# Altium footprint library CANwheel.PcbLib: 22 footprints (part 1 of 2)
Each footprint in its own frame and in the unit in brackets; x right, y up, seen from the top. Pads: shape width x height; smd on the part's side, far side on the other; paste and mask are expansions set on the pad; w line width, h text height; cw(c..) or ccw(c..) is an arc to the next point about the centre after c.
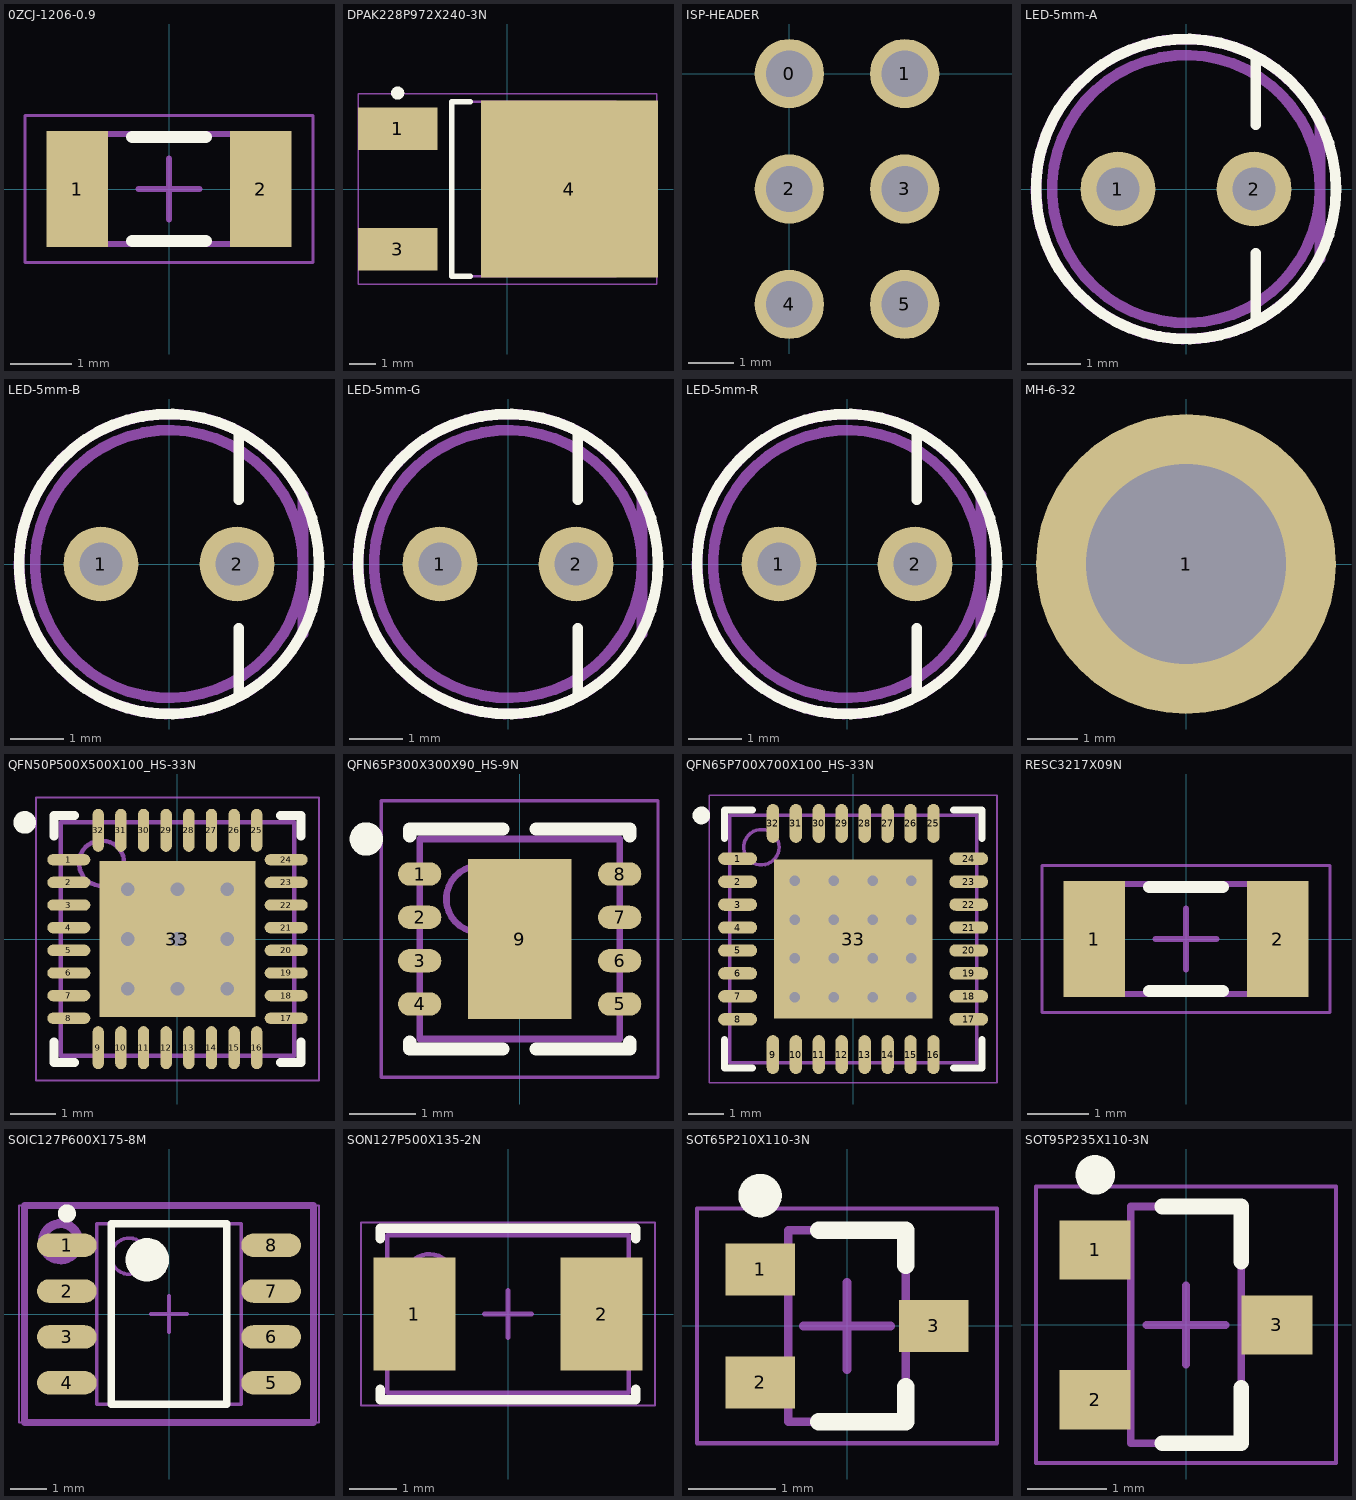
[diagram p0: the footprints below, top view; thin cyan lines are the x and y axes]

## 0ZCJ-1206-0.9 [mm]
height 0.9
pads (2):
  rect 1x1.9 smd: 1(-1.5,0) 2(1.5,0)
Top Overlay:
  lines w0.2: -0.6,-0.85 0.6,-0.85 ; -0.6,0.85 0.6,0.85
Mechanical 13:
  lines w0.1: -1.75,-0.9 1.75,-0.9 1.75,0.9 -1.75,0.9 -1.75,-0.9
Mechanical 15:
  lines w0.05: -2.35,-1.2 2.35,-1.2 2.35,1.2 -2.35,1.2 -2.35,-1.2
  lines w0.1: -0.5,0 0.5,0 ; 0,-0.5 0,0.5
3D body "CAPC3217X09N.step": height 0.9, standoff 0, extent -1.75,-0.9 1.75,0.9

## DPAK228P972X240-3N [mm] "D-PAK, 3-Pads, Body 6.20x6.66mm (max), IPC Medium Density"
height 2.4
pads (3):
  rect 3x1.6 smd: 1(-4.15,2.28) 3(-4.15,-2.28)
  rect 6.7x6.7 smd: 4(2.35,0)
Top Overlay:
  circle w0.25: c-4.15,3.63 r0.125
  lines w0.2: -1.4,-3.3 -2.1,-3.3 -2.1,3.3 -1.4,3.3
Mechanical 13:
  lines w0.1: -2.1,-3.3 4.1,-3.3 4.1,3.3 -2.1,3.3 -2.1,-3.3
Mechanical 15:
  lines w0.05: -5.65,-3.6 5.65,-3.6 5.65,3.6 -5.65,3.6 -5.65,-3.6
  lines w0.1: -0.5,0 0.5,0 ; 0,-0.5 0,0.5
3D body "DPAK228P972X240-3N.step": height 2.4, standoff 0, extent -4.4,-3.3 5.325,3.3

## ISP-HEADER [mil]
pads (6):
  round 60 hole 40.16: 0(0,0) 1(100,0) 2(0,-100) 3(100,-100) 4(0,-200) 5(100,-200)

## LED-5mm-A [mm]
pads (2):
  round 1.4 hole 0.8: 1(-1.27,0) 2(1.27,0)
Top Overlay:
  circle w0.2: c0,0 r2.8
  lines w0.2: 1.3,-2.4 1.3,-1.2 ; 1.3,1.2 1.3,2.4
Mechanical 13:
  circle w0.2: c0,0 r2.5
  lines w0.2: 2.484,1.292 ccw(c0,0) 2.504,-1.252 ; 2.5,-1.3 2.5,1.292
3D body: height 6.3, standoff 0, extent -2.5,-2.497 2.5,2.497
3D body: height 1, standoff 0, extent -2.8,-2.797 2.8,2.797
3D body: height 8.8, standoff 3.8, extent -2.489,-2.497 2.5,2.497

## LED-5mm-B [mm]
pads (2):
  round 1.4 hole 0.8: 1(-1.27,0) 2(1.27,0)
Top Overlay:
  circle w0.2: c0,0 r2.8
  lines w0.2: 1.3,-2.4 1.3,-1.2 ; 1.3,1.2 1.3,2.4
Mechanical 13:
  circle w0.2: c0,0 r2.5
  lines w0.2: 2.484,1.292 ccw(c0,0) 2.504,-1.252 ; 2.5,-1.3 2.5,1.292
3D body: height 8.8, standoff 3.8, extent -2.489,-2.497 2.5,2.497
3D body: height 6.3, standoff 0, extent -2.5,-2.497 2.5,2.497
3D body: height 1, standoff 0, extent -2.8,-2.797 2.8,2.797

## LED-5mm-G [mm]
pads (2):
  round 1.4 hole 0.8: 1(-1.27,0) 2(1.27,0)
Top Overlay:
  circle w0.2: c0,0 r2.8
  lines w0.2: 1.3,-2.4 1.3,-1.2 ; 1.3,1.2 1.3,2.4
Mechanical 13:
  circle w0.2: c0,0 r2.5
  lines w0.2: 2.484,1.292 ccw(c0,0) 2.504,-1.252 ; 2.5,-1.3 2.5,1.292
3D body: height 1, standoff 0, extent -2.8,-2.797 2.8,2.797
3D body: height 6.3, standoff 0, extent -2.5,-2.497 2.5,2.497
3D body: height 8.8, standoff 3.8, extent -2.489,-2.497 2.5,2.497

## LED-5mm-R [mm]
pads (2):
  round 1.4 hole 0.8: 1(-1.27,0) 2(1.27,0)
Top Overlay:
  circle w0.2: c0,0 r2.8
  lines w0.2: 1.3,-2.4 1.3,-1.2 ; 1.3,1.2 1.3,2.4
Mechanical 13:
  circle w0.2: c0,0 r2.5
  lines w0.2: 2.484,1.292 ccw(c0,0) 2.504,-1.252 ; 2.5,-1.3 2.5,1.292
3D body: height 8.8, standoff 3.8, extent -2.489,-2.497 2.5,2.497
3D body: height 6.3, standoff 0, extent -2.5,-2.497 2.5,2.497
3D body: height 1, standoff 0, extent -2.8,-2.797 2.8,2.797

## MH-6-32 [mm]
pads (1):
  round 6 hole 4: 1(0,0)

## QFN50P500X500X100_HS-33N [mm] "QFN, 32-Leads, Body 5.00x5.00mm, Pitch 0.50mm, Thermal Pad 3.45x3.45mm, IPC Medium Density"
height 1
pads (33):
  oval 0.95x0.25 smd: 1(-2.4,1.75) 2(-2.4,1.25) 3(-2.4,0.75) 4(-2.4,0.25) 5(-2.4,-0.25) 6(-2.4,-0.75) 7(-2.4,-1.25) 8(-2.4,-1.75) 17(2.4,-1.75) 18(2.4,-1.25) 19(2.4,-0.75) 20(2.4,-0.25) 21(2.4,0.25) 22(2.4,0.75) 23(2.4,1.25) 24(2.4,1.75)
  oval 0.25x0.95 smd: 9(-1.75,-2.4) 10(-1.25,-2.4) 11(-0.75,-2.4) 12(-0.25,-2.4) 13(0.25,-2.4) 14(0.75,-2.4) 15(1.25,-2.4) 16(1.75,-2.4) 25(1.75,2.4) 26(1.25,2.4) 27(0.75,2.4) 28(0.25,2.4) 29(-0.25,2.4) 30(-0.75,2.4) 31(-1.25,2.4) 32(-1.75,2.4)
  rect 3.45x3.45 smd: 33(0,0)
via -1.1,1.1 diameter 0.6 hole 0.3
via 0,1.1 diameter 0.6 hole 0.3
via 1.1,1.1 diameter 0.6 hole 0.3
via -1.1,0 diameter 0.6 hole 0.3
via 0,0 diameter 0.6 hole 0.3
via 1.1,0 diameter 0.6 hole 0.3
via -1.1,-1.1 diameter 0.6 hole 0.3
via 0,-1.1 diameter 0.6 hole 0.3
via 1.1,-1.1 diameter 0.6 hole 0.3
Top Overlay:
  circle w0.25: c-3.375,2.575 r0.125
  lines w0.2: -2.725,-2.275 -2.725,-2.725 -2.275,-2.725 ; -2.725,2.275 -2.725,2.725 -2.275,2.725 ; 2.275,-2.725 2.725,-2.725 2.725,-2.275 ; 2.275,2.725 2.725,2.725 2.725,2.275
Mechanical 13:
  circle w0.1: c-1.675,1.675 r0.5
  lines w0.1: -2.575,-2.575 -2.575,2.575 2.575,2.575 2.575,-2.575 -2.575,-2.575
Mechanical 15:
  lines w0.05: -3.125,-3.125 -3.125,3.125 3.125,3.125 3.125,-3.125 -3.125,-3.125
  lines w0.1: -0.5,0 0.5,0 ; 0,-0.5 0,0.5
3D body "QFN50P500X500X100_HS-33N.step": height 1, standoff 0, extent -2.655,-2.655 2.655,2.655

## QFN65P300X300X90_HS-9N [mm] "QFN, 8-Leads, Body 3.00x3.00mm, Pitch 0.65mm, Thermal Pad 1.55x2.40mm, IPC Medium Density"
height 0.9
pads (9):
  oval 0.65x0.35 smd: 1(-1.5,0.975) 2(-1.5,0.325) 3(-1.5,-0.325) 4(-1.5,-0.975) 5(1.5,-0.975) 6(1.5,-0.325) 7(1.5,0.325) 8(1.5,0.975)
  rect 1.55x2.4 smd: 9(0,0)
Top Overlay:
  circle w0.25: c-2.3,1.5 r0.125
  lines w0.2: -1.65,-1.55 -1.65,-1.65 -0.25,-1.65 ; -1.65,1.55 -1.65,1.65 -0.25,1.65 ; 0.25,-1.65 1.65,-1.65 1.65,-1.55 ; 0.25,1.65 1.65,1.65 1.65,1.55
Mechanical 13:
  circle w0.1: c-0.6,0.6 r0.5
  lines w0.1: -1.5,-1.5 -1.5,1.5 1.5,1.5 1.5,-1.5 -1.5,-1.5
Mechanical 15:
  lines w0.05: -2.075,-2.075 -2.075,2.075 2.075,2.075 2.075,-2.075 -2.075,-2.075
  lines w0.1: -0.5,0 0.5,0 ; 0,-0.5 0,0.5
3D body "QFN65P300X300X90_HS-9N.step": height 0.9, standoff 0, extent -1.55,-1.5 1.55,1.5

## QFN65P700X700X100_HS-33N [mm] "QFN, 32-Leads, Body 7.00x7.00mm, Pitch 0.65mm, Thermal Pad 4.50x4.50mm, IPC Medium Density"
height 1
pads (33):
  oval 1.1x0.35 smd: 1(-3.275,2.275) 2(-3.275,1.625) 3(-3.275,0.975) 4(-3.275,0.325) 5(-3.275,-0.325) 6(-3.275,-0.975) 7(-3.275,-1.625) 8(-3.275,-2.275) 17(3.275,-2.275) 18(3.275,-1.625) 19(3.275,-0.975) 20(3.275,-0.325) 21(3.275,0.325) 22(3.275,0.975) 23(3.275,1.625) 24(3.275,2.275)
  oval 0.35x1.1 smd: 9(-2.275,-3.275) 10(-1.625,-3.275) 11(-0.975,-3.275) 12(-0.325,-3.275) 13(0.325,-3.275) 14(0.975,-3.275) 15(1.625,-3.275) 16(2.275,-3.275) 25(2.275,3.275) 26(1.625,3.275) 27(0.975,3.275) 28(0.325,3.275) 29(-0.325,3.275) 30(-0.975,3.275) 31(-1.625,3.275) 32(-2.275,3.275)
  rect 4.5x4.5 smd: 33(0,0)
via -1.65,1.65 diameter 0.6 hole 0.3
via -0.55,1.65 diameter 0.6 hole 0.3
via 0.55,1.65 diameter 0.6 hole 0.3
via 1.65,1.65 diameter 0.6 hole 0.3
via -1.65,0.55 diameter 0.6 hole 0.3
via -0.55,0.55 diameter 0.6 hole 0.3
via 0.55,0.55 diameter 0.6 hole 0.3
via 1.65,0.55 diameter 0.6 hole 0.3
via -1.65,-0.55 diameter 0.6 hole 0.3
via -0.55,-0.55 diameter 0.6 hole 0.3
via 0.55,-0.55 diameter 0.6 hole 0.3
via 1.65,-0.55 diameter 0.6 hole 0.3
via -1.65,-1.65 diameter 0.6 hole 0.3
via -0.55,-1.65 diameter 0.6 hole 0.3
via 0.55,-1.65 diameter 0.6 hole 0.3
via 1.65,-1.65 diameter 0.6 hole 0.3
Top Overlay:
  circle w0.25: c-4.3,3.5 r0.125
  lines w0.2: -3.65,-2.85 -3.65,-3.65 -2.85,-3.65 ; -3.65,2.85 -3.65,3.65 -2.85,3.65 ; 2.85,-3.65 3.65,-3.65 3.65,-2.85 ; 2.85,3.65 3.65,3.65 3.65,2.85
Mechanical 13:
  circle w0.1: c-2.6,2.6 r0.5
  lines w0.1: -3.5,-3.5 -3.5,3.5 3.5,3.5 3.5,-3.5 -3.5,-3.5
Mechanical 15:
  lines w0.05: -4.075,-4.075 -4.075,4.075 4.075,4.075 4.075,-4.075 -4.075,-4.075
  lines w0.1: -0.5,0 0.5,0 ; 0,-0.5 0,0.5
3D body "QFN65P700X700X100_HS-33N.step": height 1, standoff 0, extent -3.55,-3.55 3.55,3.55

## RESC3217X09N [mm] "Chip Resistor, 2-Leads, Body 3.25x1.65mm, IPC Medium Density"
height 0.9
pads (2):
  rect 1x1.9 smd: 1(-1.5,0) 2(1.5,0)
Top Overlay:
  lines w0.2: -0.6,-0.85 0.6,-0.85 ; -0.6,0.85 0.6,0.85
Mechanical 13:
  lines w0.1: -1.75,-0.9 1.75,-0.9 1.75,0.9 -1.75,0.9 -1.75,-0.9
Mechanical 15:
  lines w0.05: -2.35,-1.2 2.35,-1.2 2.35,1.2 -2.35,1.2 -2.35,-1.2
  lines w0.1: -0.5,0 0.5,0 ; 0,-0.5 0,0.5
3D body "RESC3217X09N.step": height 0.9, standoff 0, extent -1.75,-0.9 1.75,0.9

## SOIC127P600X175-8M [mm] "SOIC, 8-Leads, Body 4.90x3.90mm, Pitch 1.27mm, IPC Low Density"
height 1.75
pads (8):
  oval 1.65x0.65 smd: 1(-2.825,1.905) 2(-2.825,0.635) 3(-2.825,-0.635) 4(-2.825,-1.905) 5(2.825,-1.905) 6(2.825,-0.635) 7(2.825,0.635) 8(2.825,1.905)
Top Overlay:
  circle w0.6: c-0.6,1.5 r0.3
  circle w0.25: c-2.825,2.78 r0.125
  lines w0.2: -1.6,-2.5 1.6,-2.5 1.6,2.5 -1.6,2.5 -1.6,-2.5
Mechanical 13:
  circle w0.1: c-1.1,1.6 r0.5
  lines w0.1: -2,-2.5 2,-2.5 2,2.5 -2,2.5 -2,-2.5
Mechanical 15:
  lines w0.05: -4.15,-3 4.15,-3 4.15,3 -4.15,3 -4.15,-3
  lines w0.1: -0.5,0 0.5,0 ; 0,-0.5 0,0.5
Mechanical 29:
  circle w0.254: c-3,2 r0.5
  lines w0.2: -4,-3 -4,3 4,3 4,-3 -4,-3
  text ".Designator" at -2.3,-0.9 h1.52
3D body "SOIC127P600X175-8M.step": height 1.75, standoff 0, extent -3,-2.5 3,2.5

## SON127P500X135-2N [mm] "SON, 2-Leads, Body 3.20x5.00mm, Pitch 1.27mm, IPC Medium Density"
height 1.35
pads (2):
  rect 1.75x2.4 smd: 1(-1.995,0) 2(1.995,0)
Top Overlay:
  lines w0.2: -2.725,-1.6 -2.725,-1.825 2.725,-1.825 2.725,-1.6 ; -2.725,1.6 -2.725,1.825 2.725,1.825 2.725,1.6
Mechanical 13:
  circle w0.1: c-1.675,0.775 r0.5
  lines w0.1: -2.575,-1.675 2.575,-1.675 2.575,1.675 -2.575,1.675 -2.575,-1.675
Mechanical 15:
  lines w0.05: -3.13,-1.95 3.13,-1.95 3.13,1.95 -3.13,1.95 -3.13,-1.95
  lines w0.1: -0.5,0 0.5,0 ; 0,-0.5 0,0.5
3D body "SON127P500X135-2N.step": height 1.35, standoff 0.1, extent -2.575,-1.675 2.575,1.675

## SOT65P210X110-3N [mm] "SOT23, 3-Leads, Body 2.00x2.10mm, Pitch 0.65mm, IPC Medium Density"
height 1.1
pads (3):
  rect 0.8x0.6 smd: 1(-1,0.65) 2(-1,-0.65) 3(1,0)
Top Overlay:
  circle w0.25: c-1,1.5 r0.125
  lines w0.2: -0.325,-1.1 0.675,-1.1 0.675,-0.7 ; -0.325,1.1 0.675,1.1 0.675,0.7
Mechanical 13:
  lines w0.1: -0.675,-1.1 0.675,-1.1 0.675,1.1 -0.675,1.1 -0.675,-1.1
Mechanical 15:
  lines w0.05: -1.725,-1.35 1.725,-1.35 1.725,1.35 -1.725,1.35 -1.725,-1.35
  lines w0.1: -0.5,0 0.5,0 ; 0,-0.5 0,0.5
3D body "SOT65P210X110-3N.step": height 1.1, standoff 0, extent -1.15,-1.1 1.15,1.1

## SOT95P235X110-3N [mm] "SOT23, 3-Leads, Body 2.90x2.35mm, Pitch 0.95mm, IPC Medium Density"
height 1.1
pads (3):
  rect 0.9x0.75 smd: 1(-1.15,0.95) 2(-1.15,-0.95) 3(1.15,0)
Top Overlay:
  circle w0.25: c-1.15,1.9 r0.125
  lines w0.2: -0.3,-1.5 0.7,-1.5 0.7,-0.8 ; -0.3,1.5 0.7,1.5 0.7,0.8
Mechanical 13:
  lines w0.1: -0.7,-1.5 0.7,-1.5 0.7,1.5 -0.7,1.5 -0.7,-1.5
Mechanical 15:
  lines w0.05: -1.9,-1.75 1.9,-1.75 1.9,1.75 -1.9,1.75 -1.9,-1.75
  lines w0.1: -0.5,0 0.5,0 ; 0,-0.5 0,0.5
3D body "SOT95P235X110-3N.step": height 1.1, standoff 0, extent -1.3,-1.5 1.3,1.5